# Altium integrated library NSC OtherParts.IntLib: 55 symbols (part 2 of 2)
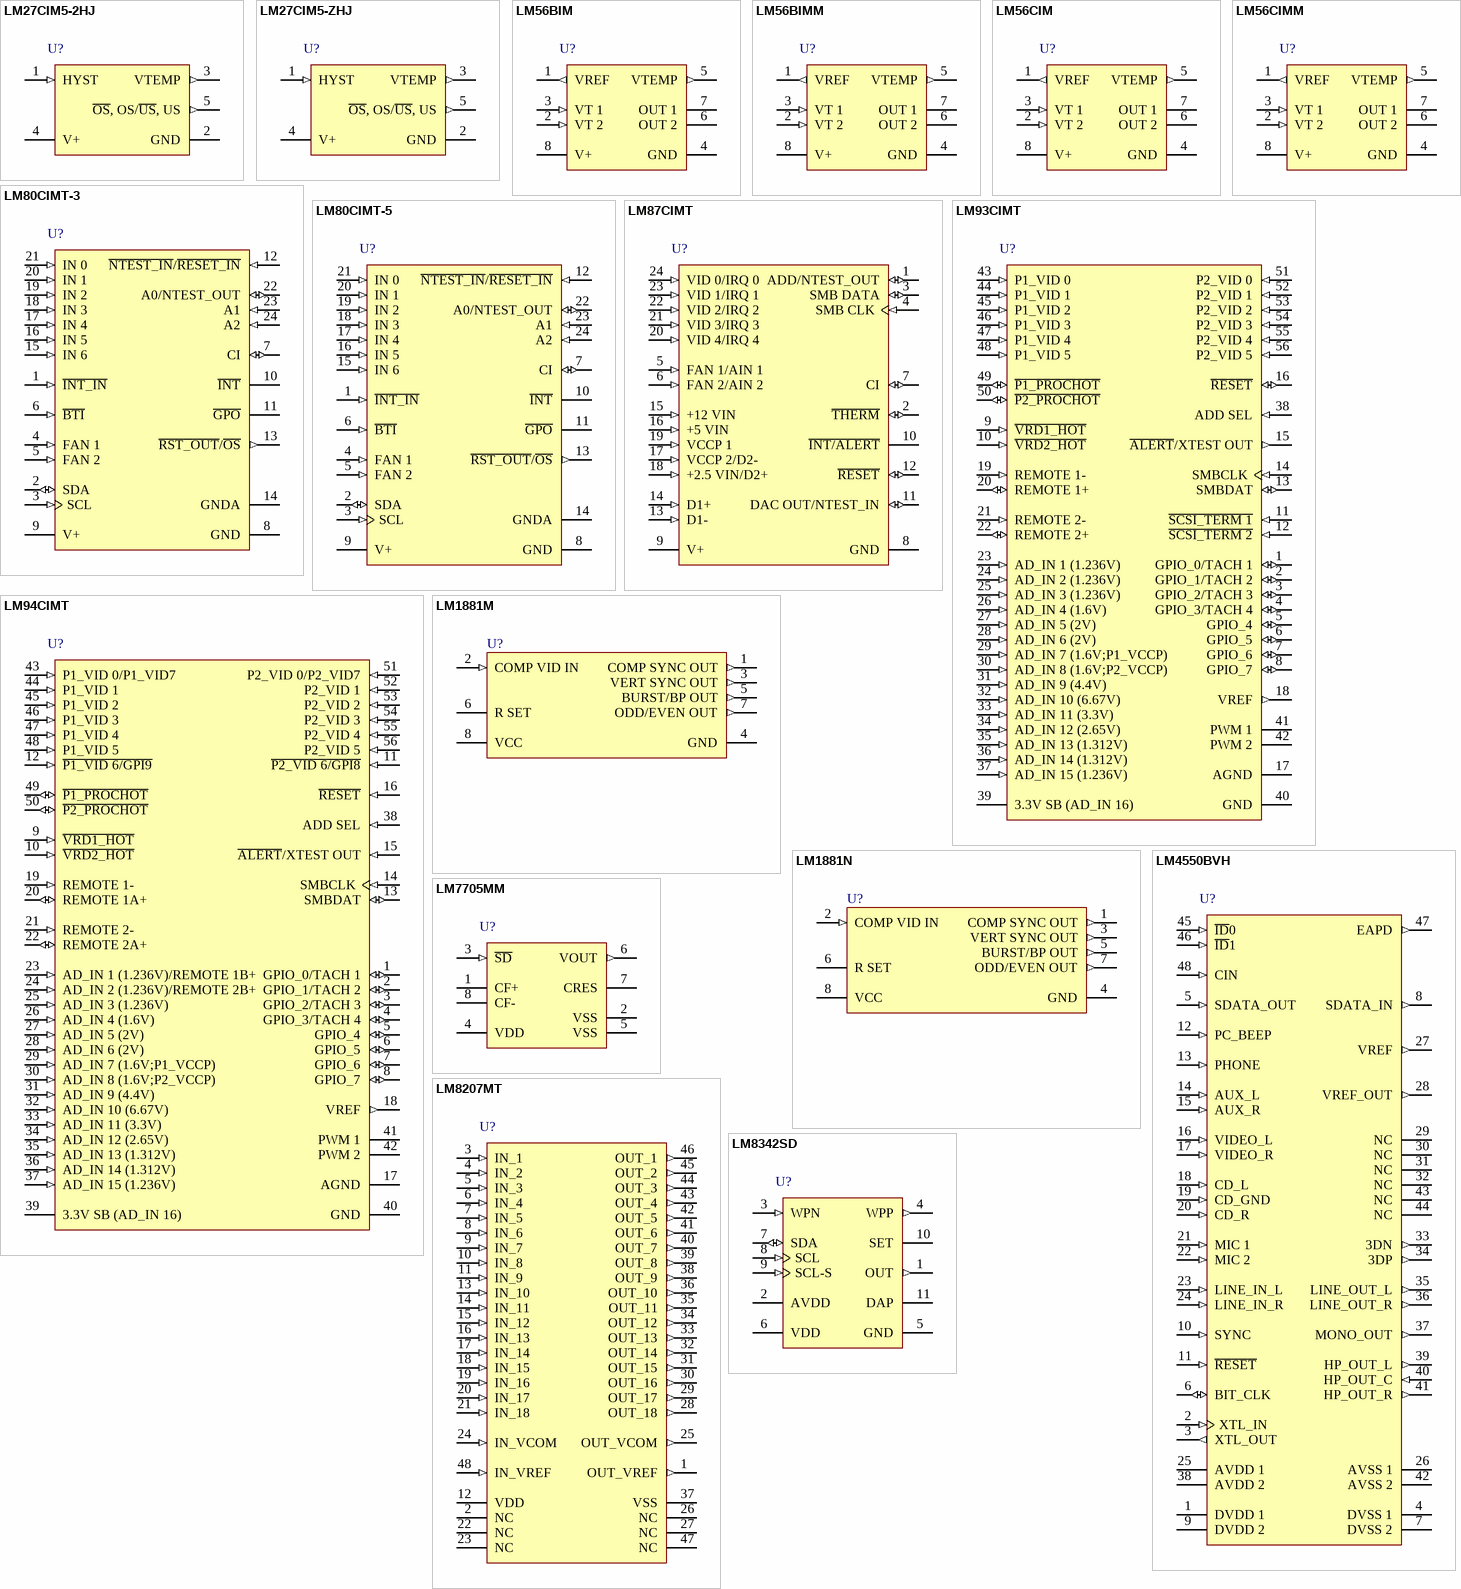
[diagram p4: symbols LM27CIM5-2HJ to LM8342SD]

## LM4550BVH
designator U?
AC '97 Rev 2.1 Codec with Sample Rate Conversion and National 3D Sound; PartNumber: LM4550BVH; Manufacturer: National Semiconductor; CompType: OtherParts; PackageTopMarking: TXPA*XTT; Published: 4-Dec-2008; DatasheetVersion: Sep-2006; PackageVersion: revE, May-2007; PackageReference: VBH48A; Publisher: Altium Limited; PackageDescription: LQFP, 7 x 7 x 1.4mm, 48 Lead, 0.5mm Pitch; RoHS: O; PinCount: 48; DigiKeyPartNumber: LM4550BVH-ND; ComponentLink1Description: LM4550B Datasheet; ComponentLink1URL: http://www.national.com/ds/LM/LM4550B.pdf; ComponentLink2Description: LM4550B Web Page; ComponentLink2URL: http://www.national.com/pf/LM/LM4550B.html; ComponentLink3Description: VBH48A Package Page; ComponentLink3URL: http://www.national.com/packaging/folders/vbh48a.html
footprint VBH48A_N (Thin QFP, 48-Leads, Body 7x7mm, Pitch 0.5mm, IPC Medium Density)
footprint VBH48A_L (Thin QFP, 48-Leads, Body 7x7mm, Pitch 0.5mm, IPC High Density)
footprint VBH48A_M (Thin QFP, 48-Leads, Body 7x7mm, Pitch 0.5mm, IPC Low Density)
pins: 1 DVDD 1 (power), 2 XTL_IN (in), 3 XTL_OUT (out), 4 DVSS 1 (power), 5 SDATA_OUT (in), 6 BIT_CLK (io), 7 DVSS 2 (power), 8 SDATA_IN (out), 9 DVDD 2 (power), 10 SYNC (in), 11 ~{RESET} (in), 12 PC_BEEP (in), 13 PHONE (in), 14 AUX_L (in), 15 AUX_R (in), 16 VIDEO_L (in), 17 VIDEO_R (in), 18 CD_L (in), 19 CD_GND (in), 20 CD_R (in), 21 MIC 1 (in), 22 MIC 2 (in), 23 LINE_IN_L (in), 24 LINE_IN_R (in), 25 AVDD 1 (power), 26 AVSS 1 (power), 27 VREF (out), 28 VREF_OUT (out), 29 NC, 30 NC, 31 NC, 32 NC, 33 3DN (out), 34 3DP (out), 35 LINE_OUT_L (out), 36 LINE_OUT_R (out), 37 MONO_OUT (out), 38 AVDD 2 (power), 39 HP_OUT_L (out), 40 HP_OUT_C (in), 41 HP_OUT_R (out), 42 AVSS 2 (power), 43 NC, 44 NC, 45 ~{ID}0 (in), 46 ~{ID}1 (in), 47 EAPD (out), 48 CIN (in)

## LM7705MM
designator U?
Low Noise Negative Bias Generator; PartNumber: LM7705MM; Manufacturer: National Semiconductor; CompType: OtherParts; PackageTopMarking: THHD*XTT; Published: 4-Dec-2008; DatasheetVersion: Nov-2008; PackageVersion: revF, Apr-2008; PackageReference: MUA08A; Publisher: Altium Limited; PackageDescription: MINI SOIC, .118 x .118 x .034in, 8 Lead, .0256in Pitch; RoHS: Y; PinCount: 8; Code_JEDEC: MO-187-AA; ComponentLink1Description: LM7705 Datasheet; ComponentLink1URL: http://www.national.com/ds/LM/LM7705.pdf; ComponentLink2Description: LM7705 Web Page; ComponentLink2URL: http://www.national.com/pf/LM/LM7705.html; ComponentLink3Description: MUA08A Package Page; ComponentLink3URL: http://www.national.com/packaging/folders/mua08a.html
footprint MUA08A_N (TSOP, 8-Leads, Body 3x3mm, Pitch 0.65mm, IPC Medium Density)
footprint MUA08A_L (TSOP, 8-Leads, Body 3x3mm, Pitch 0.65mm, IPC High Density)
footprint MUA08A_M (TSOP, 8-Leads, Body 3x3mm, Pitch 0.65mm, IPC Low Density)
pins: 1 CF+, 2 VSS (power), 3 ~{SD} (in), 4 VDD (power), 5 VSS (power), 6 VOUT (out), 7 CRES, 8 CF-

## LM8207MT
designator U?
TFT 18 Gamma Buffer + Vcom Driver + Voltage Reference; PartNumber: LM8207MT; Manufacturer: National Semiconductor; CompType: OtherParts; PackageTopMarking: TXPA*XTT; Published: 4-Dec-2008; DatasheetVersion: Sep-2005; PackageVersion: revE, Apr-2003; PackageReference: MTD48; Publisher: Altium Limited; PackageDescription: Molded TSSOP, Jedec, 12.5 x 6.1 x 0.9mm Body, 48 Lead, 0.50mm Pitch; RoHS: O; PinCount: 48; DigiKeyPartNumber: LM8207MT-ND; Code_JEDEC: MO-153-ED; ComponentLink1Description: LM8207 Datasheet; ComponentLink1URL: http://www.national.com/ds/LM/LM8207.pdf; ComponentLink2Description: LM8207 Web Page; ComponentLink2URL: http://www.national.com/pf/LM/LM8207.html; ComponentLink3Description: MTD48 Package Page; ComponentLink3URL: http://www.national.com/packaging/folders/mtd48.html
footprint MTD48_N (TSSOP, 48-Leads, Body 12.5x6.1mm, Pitch 0.5mm, IPC Medium Density)
footprint MTD48_L (TSSOP, 48-Leads, Body 12.5x6.1mm, Pitch 0.5mm, IPC High Density)
footprint MTD48_M (TSSOP, 48-Leads, Body 12.5x6.1mm, Pitch 0.5mm, IPC Low Density)
pins: 1 OUT_VREF (out), 2 NC, 3 IN_1 (in), 4 IN_2 (in), 5 IN_3 (in), 6 IN_4 (in), 7 IN_5 (in), 8 IN_6 (in), 9 IN_7 (in), 10 IN_8 (in), 11 IN_9 (in), 12 VDD (power), 13 IN_10 (in), 14 IN_11 (in), 15 IN_12 (in), 16 IN_13 (in), 17 IN_14 (in), 18 IN_15 (in), 19 IN_16 (in), 20 IN_17 (in), 21 IN_18 (in), 22 NC, 23 NC, 24 IN_VCOM (in), 25 OUT_VCOM (out), 26 NC, 27 NC, 28 OUT_18 (out), 29 OUT_17 (out), 30 OUT_16 (out), 31 OUT_15 (out), 32 OUT_14 (out), 33 OUT_13 (out), 34 OUT_12 (out), 35 OUT_11 (out), 36 OUT_10 (out), 37 VSS (power), 38 OUT_9 (out), 39 OUT_8 (out), 40 OUT_7 (out), 41 OUT_6 (out), 42 OUT_5 (out), 43 OUT_4 (out), 44 OUT_3 (out), 45 OUT_2 (out), 46 OUT_1 (out), 47 NC, 48 IN_VREF (in)

## LM8342SD
designator U?
Programmable TFT Vcom Calibrator with Non-Volatile Memory; PartNumber: LM8342SD; Manufacturer: National Semiconductor; CompType: OtherParts; PackageTopMarking: TXPA*XTT; Published: 4-Dec-2008; DatasheetVersion: Mar-2008; PackageVersion: revA, Oct-2003; PackageReference: SDA10A; Publisher: Altium Limited; PackageDescription: LLP, Plastic, Dual, 3 x 3 x 0.8mm Body, 10 Lead, 0.5mm Pitch, No Pullback; RoHS: O; PinCount: 11; DigiKeyPartNumber: LM8342SDCT-ND; ComponentLink1Description: LM8342 Datasheet; ComponentLink1URL: http://www.national.com/ds/LM/LM8342.pdf; ComponentLink2Description: LM8342 Web Page; ComponentLink2URL: http://www.national.com/pf/LM/LM8342.html; ComponentLink3Description: SDA10A Package Page; ComponentLink3URL: http://www.national.com/packaging/folders/sda10a.html
footprint SDA10A (SON, 10-Leads, Body 3x3 mm, Pitch 0.5mm, NSC Recommended)
pins: 1 OUT (out), 2 AVDD (power), 3 WPN (in), 4 WPP (out), 5 GND (power), 6 VDD (power), 7 SDA (io), 8 SCL (in), 9 SCL-S (in), 10 SET, 11 DAP (power)

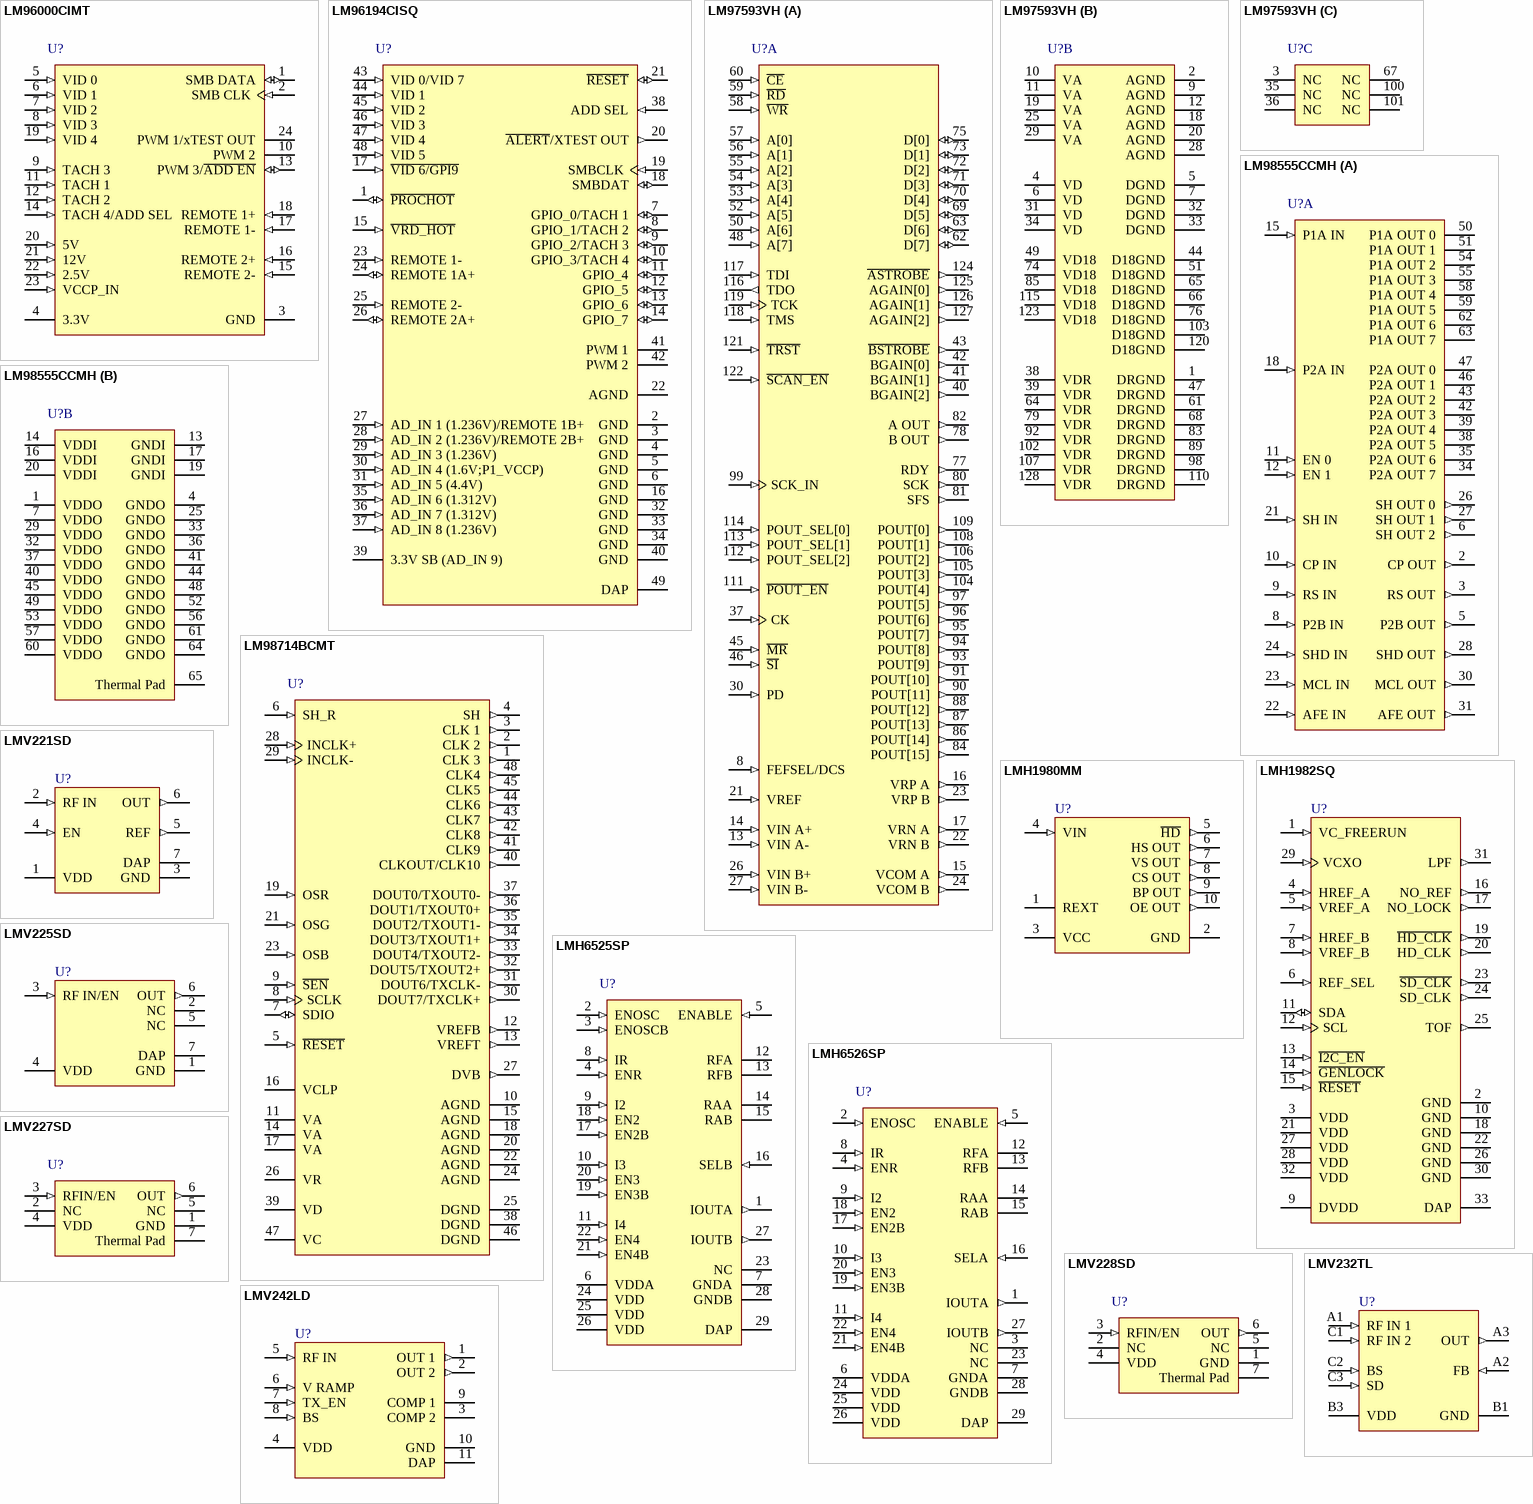
[diagram p2: symbols LM96000CIMT to LMV242LD]

## LM96000CIMT
designator U?
Hardware Monitor with Integrated Fan Control; PartNumber: LM96000CIMT; Manufacturer: National Semiconductor; CompType: OtherParts; PackageTopMarking: TXPA*XTT; Published: 4-Dec-2008; DatasheetVersion: Jul-2008; PackageVersion: revE, Mar-2003; PackageReference: MTC24; Publisher: Altium Limited; PackageDescription: Molded TSSOP, Jedec, 7.8 x 4.4 x 0.9mm Body, 24 Lead, 0.65mm Pitch; RoHS: O; PinCount: 24; DigiKeyPartNumber: LM96000CIMT-ND; Code_JEDEC: MO-153-AD; ComponentLink1Description: LM96000 Datasheet; ComponentLink1URL: http://www.national.com/ds/LM/LM96000.pdf; ComponentLink2Description: LM96000 Web Page; ComponentLink2URL: http://www.national.com/pf/LM/LM96000.html; ComponentLink3Description: MTC24 Package Page; ComponentLink3URL: http://www.national.com/packaging/folders/mtc24.html
footprint MTC24_N (TSOP, 24-Leads, Body 7.8x4.4mm, Pitch 0.65mm, IPC Medium Density)
footprint MTC24_L (TSOP, 24-Leads, Body 7.8x4.4mm, Pitch 0.65mm, IPC High Density)
footprint MTC24_M (TSOP, 24-Leads, Body 7.8x4.4mm, Pitch 0.65mm, IPC Low Density)
pins: 1 SMB DATA (io), 2 SMB CLK (in), 3 GND (power), 4 3.3V (power), 5 VID 0 (in), 6 VID 1 (in), 7 VID 2 (in), 8 VID 3 (in), 9 TACH 3 (in), 10 PWM 2 (oe), 11 TACH 1 (in), 12 TACH 2 (in), 13 PWM 3/~{ADD EN} (io), 14 TACH 4/ADD SEL (in), 15 REMOTE 2- (in), 16 REMOTE 2+ (in), 17 REMOTE 1- (in), 18 REMOTE 1+ (in), 19 VID 4 (in), 20 5V (in), 21 12V (in), 22 2.5V (in), 23 VCCP_IN (in), 24 PWM 1/xTEST OUT (oe)

## LM96194CISQ
designator U?
TruTherm Hardware Monitor with PI Fan Control for Workstation Management; PartNumber: LM96194CISQ; Manufacturer: National Semiconductor; CompType: OtherParts; PackageTopMarking: THHD*XTT; Published: 4-Dec-2008; DatasheetVersion: Mar-2004; PackageVersion: revA, May-2003; PackageReference: SQA48A; Publisher: Altium Limited; PackageDescription: LLP, Plastic, Quad, 7 x 7 x 0.8mm Body, 48 Lead, 0.5mm Pitch, No Pullback; RoHS: Y; PinCount: 48; DigiKeyPartNumber: LM96194CISQCT-ND; Code_JEDEC: MO-220-WKKD-2; ComponentLink1Description: LM96194 Datasheet; ComponentLink1URL: http://www.national.com/ds/LM/LM96194.pdf; ComponentLink2Description: LM96194 Web Page; ComponentLink2URL: http://www.national.com/pf/LM/LM96194.html; ComponentLink3Description: SQA48A Package Page; ComponentLink3URL: http://www.national.com/packaging/folders/sqa48a.html
footprint SQA48A (QFN, 48-Leads, Body 7x7mm, Pitch 0.5mm, NSC Recommended)
pins: 1 ~{PROCHOT} (io), 2 GND (power), 3 GND (power), 4 GND (power), 5 GND (power), 6 GND (power), 7 GPIO_0/TACH 1 (io), 8 GPIO_1/TACH 2 (io), 9 GPIO_2/TACH 3 (io), 10 GPIO_3/TACH 4 (io), 11 GPIO_4 (io), 12 GPIO_5 (io), 13 GPIO_6 (io), 14 GPIO_7 (io), 15 ~{VRD_HOT} (in), 16 GND (power), 17 ~{VID 6/GPI9} (in), 18 SMBDAT (io), 19 SMBCLK (in), 20 ~{ALERT}/XTEST OUT (out), 21 ~{RESET} (io), 22 AGND (power), 23 REMOTE 1- (in), 24 REMOTE 1A+ (io), 25 REMOTE 2- (in), 26 REMOTE 2A+ (io), 27 AD_IN 1 (1.236V)/REMOTE 1B+ (in), 28 AD_IN 2 (1.236V)/REMOTE 2B+ (in), 29 AD_IN 3 (1.236V) (in), 30 AD_IN 4 (1.6V;P1_VCCP) (in), 31 AD_IN 5 (4.4V) (in), 32 GND (power), 33 GND (power), 34 GND (power), 35 AD_IN 6 (1.312V) (in), 36 AD_IN 7 (1.312V) (in), 37 AD_IN 8 (1.236V) (in), 38 ADD SEL (in), 39 3.3V SB (AD_IN 9) (power), 40 GND (power), 41 PWM 1 (oe), 42 PWM 2 (oe), 43 VID 0/VID 7 (in), 44 VID 1 (in), 45 VID 2 (in), 46 VID 3 (in), 47 VID 4 (in), 48 VID 5 (in), 49 DAP (power)

## LM97593VH
designator U?
Dual ADC / Digital Tuner / AGC; PartNumber: LM97593VH; Manufacturer: National Semiconductor; CompType: OtherParts; PackageTopMarking: THHD*XTT; Published: 4-Dec-2008; DatasheetVersion: Mar-2008; PackageVersion: revC, Jun-1998; PackageReference: VLA128A; Publisher: Altium Limited; PackageDescription: PQFP, (S), 14 x 20 x 2.7mm, 128 Lead; RoHS: Y; PinCount: 128; DigiKeyPartNumber: LM97593VH-ND; ComponentLink1Description: LM97593 Datasheet; ComponentLink1URL: http://www.national.com/ds/LM/LM97593.pdf; ComponentLink2Description: LM97593 Web Page; ComponentLink2URL: http://www.national.com/pf/LM/LM97593.html; ComponentLink3Description: VLA128A Package Page; ComponentLink3URL: http://www.national.com/packaging/folders/vla128a.html
footprint VLA128A_N (Shrink QFP, 128-Leads, Body 20x14 mm, Pitch 0.5mm, IPC Medium Density)
footprint VLA128A_L (Shrink QFP, 128-Leads, Body 20x14 mm, Pitch 0.5mm, IPC High Density)
footprint VLA128A_M (Shrink QFP, 128-Leads, Body 20x14 mm, Pitch 0.5mm, IPC Low Density)
part A pins: 8 FEFSEL/DCS (in), 13 VIN A- (in), 14 VIN A+ (in), 15 VCOM A (out), 16 VRP A (out), 17 VRN A (out), 21 VREF (in), 22 VRN B (out), 23 VRP B (out), 24 VCOM B (out), 26 VIN B+ (in), 27 VIN B- (in), 30 PD (in), 37 CK (in), 40 BGAIN[2] (out), 41 BGAIN[1] (out), 42 BGAIN[0] (out), 43 ~{BSTROBE} (out), 45 ~{MR} (in), 46 ~{SI} (in), 48 A[7] (in), 50 A[6] (in), 52 A[5] (in), 53 A[4] (in), 54 A[3] (in), 55 A[2] (in), 56 A[1] (in), 57 A[0] (in), 58 ~{WR} (in), 59 ~{RD} (in), 60 ~{CE} (in), 62 D[7] (io), 63 D[6] (io), 69 D[5] (io), 70 D[4] (io), 71 D[3] (io), 72 D[2] (io), 73 D[1] (io), 75 D[0] (io), 77 RDY (out), 78 B OUT (out), 80 SCK (out), 81 SFS (out), 82 A OUT (out), 84 POUT[15] (out), 86 POUT[14] (out), 87 POUT[13] (out), 88 POUT[12] (out), 90 POUT[11] (out), 91 POUT[10] (out), 93 POUT[9] (out), 94 POUT[8] (out), 95 POUT[7] (out), 96 POUT[6] (out), 97 POUT[5] (out), 99 SCK_IN (in), 104 POUT[4] (out), 105 POUT[3] (out), 106 POUT[2] (out), 108 POUT[1] (out), 109 POUT[0] (out), 111 ~{POUT_EN} (in), 112 POUT_SEL[2] (in), 113 POUT_SEL[1] (in), 114 POUT_SEL[0] (in), 116 TDO (out), 117 TDI (in), 118 TMS (in), 119 TCK (in), 121 ~{TRST} (in), 122 ~{SCAN_EN} (in), 124 ~{ASTROBE} (out), 125 AGAIN[0] (out), 126 AGAIN[1] (out), 127 AGAIN[2] (out)
part B pins: 1 DRGND (power), 2 AGND (power), 4 VD (power), 5 DGND (power), 6 VD (power), 7 DGND (power), 9 AGND (power), 10 VA (power), 11 VA (power), 12 AGND (power), 18 AGND (power), 19 VA (power), 20 AGND (power), 25 VA (power), 28 AGND (power), 29 VA (power), 31 VD (power), 32 DGND (power), 33 DGND (power), 34 VD (power), 38 VDR (power), 39 VDR (power), 44 D18GND (power), 47 DRGND (power), 49 VD18 (power), 51 D18GND (power), 61 DRGND (power), 64 VDR (power), 65 D18GND (power), 66 D18GND (power), 68 DRGND (power), 74 VD18 (power), 76 D18GND (power), 79 VDR (power), 83 DRGND (power), 85 VD18 (power), 89 DRGND (power), 92 VDR (power), 98 DRGND (power), 102 VDR (power), 103 D18GND (power), 107 VDR (power), 110 DRGND (power), 115 VD18 (power), 120 D18GND (power), 123 VD18 (power), 128 VDR (power)
part C pins: 3 NC, 35 NC, 36 NC, 67 NC, 100 NC, 101 NC

## LM98555CCMH
designator U?
CCD Driver; PartNumber: LM98555CCMH; Manufacturer: National Semiconductor; CompType: OtherParts; PackageTopMarking: THHD*XTT; Published: 4-Dec-2008; DatasheetVersion: Aug-2007; PackageVersion: revA, Feb-2004; PackageReference: MXD64A; Publisher: Altium Limited; PackageDescription: Molded TSSOP, JEDEC, 17 x 6.1 x 0.9mm Body, 64 Lead, 0.5mm Pitch, Exposed Pad; RoHS: Y; PinCount: 65; DigiKeyPartNumber: LM98555CCMH-ND; Code_JEDEC: MO-153-EFT; ComponentLink1Description: LM98555 Datasheet; ComponentLink1URL: http://www.national.com/ds/LM/LM98555.pdf; ComponentLink2Description: LM98555 Web Page; ComponentLink2URL: http://www.national.com/pf/LM/LM98555.html; ComponentLink3Description: MXD64A Package Page; ComponentLink3URL: http://www.national.com/packaging/folders/mxd64a.html
footprint MXD64A_N (TSSOP, 64-Leads, Body 17x6.1mm, Pitch 0.5mm, Exposed Pad, IPC Medium Density)
footprint MXD64A_L (TSSOP, 64-Leads, Body 17x6.1mm, Pitch 0.5mm, Exposed Pad, IPC High Density)
footprint MXD64A_M (TSSOP, 64-Leads, Body 17x6.1mm, Pitch 0.5mm, Exposed Pad, IPC Low Density)
part A pins: 2 CP OUT (out), 3 RS OUT (out), 5 P2B OUT (out), 6 SH OUT 2 (out), 8 P2B IN (in), 9 RS IN (in), 10 CP IN (in), 11 EN 0 (in), 12 EN 1 (in), 15 P1A IN (in), 18 P2A IN (in), 21 SH IN (in), 22 AFE IN (in), 23 MCL IN (in), 24 SHD IN (in), 26 SH OUT 0 (out), 27 SH OUT 1 (out), 28 SHD OUT (out), 30 MCL OUT (out), 31 AFE OUT (out), 34 P2A OUT 7 (hiz), 35 P2A OUT 6 (hiz), 38 P2A OUT 5 (hiz), 39 P2A OUT 4 (hiz), 42 P2A OUT 3 (hiz), 43 P2A OUT 2 (hiz), 46 P2A OUT 1 (hiz), 47 P2A OUT 0 (hiz), 50 P1A OUT 0 (hiz), 51 P1A OUT 1 (hiz), 54 P1A OUT 2 (hiz), 55 P1A OUT 3 (hiz), 58 P1A OUT 4 (hiz), 59 P1A OUT 5 (hiz), 62 P1A OUT 6 (hiz), 63 P1A OUT 7 (hiz)
part B pins: 1 VDDO (power), 4 GNDO (power), 7 VDDO (power), 13 GNDI (power), 14 VDDI (power), 16 VDDI (power), 17 GNDI (power), 19 GNDI (power), 20 VDDI (power), 25 GNDO (power), 29 VDDO (power), 32 VDDO (power), 33 GNDO (power), 36 GNDO (power), 37 VDDO (power), 40 VDDO (power), 41 GNDO (power), 44 GNDO (power), 45 VDDO (power), 48 GNDO (power), 49 VDDO (power), 52 GNDO (power), 53 VDDO (power), 56 GNDO (power), 57 VDDO (power), 60 VDDO (power), 61 GNDO (power), 64 GNDO (power), 65 Thermal Pad (power)

## LM98714BCMT
designator U?
Three Channel, 16-Bit, 45 MSPS Digital Copier Analog Front End with Integrated CCD/CIS Sensor Timing Generator and LVDS Output; PartNumber: LM98714BCMT; Manufacturer: National Semiconductor; CompType: OtherParts; PackageTopMarking: THHD*XTT; Published: 4-Dec-2008; DatasheetVersion: Oct-2006; PackageVersion: revE, Apr-2003; PackageReference: MTD48; Publisher: Altium Limited; PackageDescription: Molded TSSOP, Jedec, 12.5 x 6.1 x 0.9mm Body, 48 Lead, 0.50mm Pitch; RoHS: Y; PinCount: 48; DigiKeyPartNumber: LM98714BCMT-ND; Code_JEDEC: MO-153-ED; ComponentLink1Description: LM98714 Datasheet; ComponentLink1URL: http://www.national.com/ds/LM/LM98714.pdf; ComponentLink2Description: LM98714 Web Page; ComponentLink2URL: http://www.national.com/pf/LM/LM98714.html; ComponentLink3Description: MTD48 Package Page; ComponentLink3URL: http://www.national.com/packaging/folders/mtd48.html
footprint MTD48_N (TSSOP, 48-Leads, Body 12.5x6.1mm, Pitch 0.5mm, IPC Medium Density)
footprint MTD48_L (TSSOP, 48-Leads, Body 12.5x6.1mm, Pitch 0.5mm, IPC High Density)
footprint MTD48_M (TSSOP, 48-Leads, Body 12.5x6.1mm, Pitch 0.5mm, IPC Low Density)
pins: 1 CLK 3 (out), 2 CLK 2 (out), 3 CLK 1 (out), 4 SH (out), 5 ~{RESET} (in), 6 SH_R (in), 7 SDIO (io), 8 SCLK (in), 9 ~{SEN} (in), 10 AGND (power), 11 VA (power), 12 VREFB (out), 13 VREFT (out), 14 VA (power), 15 AGND (power), 16 VCLP (power), 17 VA (power), 18 AGND (power), 19 OSR (in), 20 AGND (power), 21 OSG (in), 22 AGND (power), 23 OSB (in), 24 AGND (power), 25 DGND (power), 26 VR (power), 27 DVB (out), 28 INCLK+ (in), 29 INCLK- (in), 30 DOUT7/TXCLK+ (out), 31 DOUT6/TXCLK- (out), 32 DOUT5/TXOUT2+ (out), 33 DOUT4/TXOUT2- (out), 34 DOUT3/TXOUT1+ (out), 35 DOUT2/TXOUT1- (out), 36 DOUT1/TXOUT0+ (out), 37 DOUT0/TXOUT0- (out), 38 DGND (power), 39 VD (power), 40 CLKOUT/CLK10 (out), 41 CLK9 (out), 42 CLK8 (out), 43 CLK7 (out), 44 CLK6 (out), 45 CLK5 (out), 46 DGND (power), 47 VC (power), 48 CLK4 (out)

## LMH1980MM
designator U?
Auto-Detecting SD/HD/PC Video Sync Separator; PartNumber: LMH1980MM; Manufacturer: National Semiconductor; CompType: OtherParts; PackageTopMarking: ZXTT*AL4A; Published: 4-Dec-2008; DatasheetVersion: Jul-2007; PackageVersion: revB, Jul-2003; PackageReference: MUB10A; Publisher: Altium Limited; PackageDescription: Mini-SO, Molded, .118 x .118 x .034in Body, 10 Lead, .0197in Pitch; RoHS: Y; Pin Count: 10; DigiKeyPartNumber: LMH1980MMCT-ND; Code_JEDEC: MO-187-BA; ComponentLink1Description: LMH1980 Datasheet; ComponentLink1URL: http://www.national.com/ds/LM/LMH1980.pdf; ComponentLink2Description: LMH1980 Web Page; ComponentLink2URL: http://www.national.com/pf/LM/LMH1980.html; ComponentLink3Description: MUB10A Package Page; ComponentLink3URL: http://www.national.com/packaging/folders/mub10a.html
footprint MUB10A_N (TSSOP, 10-Leads, Body 3x3mm, Pitch 0.5mm, IPC Medium Density)
footprint MUB10A_L (TSSOP, 10-Leads, Body 3x3mm, Pitch 0.5mm, IPC High Density)
footprint MUB10A_M (TSSOP, 10-Leads, Body 3x3mm, Pitch 0.5mm, IPC Low Density)
pins: 1 REXT, 2 GND (power), 3 VCC (power), 4 VIN (in), 5 ~{HD} (out), 6 HS OUT (out), 7 VS OUT (out), 8 CS OUT (out), 9 BP OUT (out), 10 OE OUT (out)

## LMH1982SQ
designator U?
Multi-Rate Video Clock Generator with Genlock; PartNumber: LMH1982SQ; Manufacturer: National Semiconductor; CompType: OtherParts; PackageTopMarking: NS*UZXYTT*L1982SQ; Published: 4-Dec-2008; DatasheetVersion: Jul-2008; PackageVersion: revA, Jul-2004; PackageReference: SQA32A; Publisher: Altium Limited; PackageDescription: LLP, Quad, 5 x 5 x 0.8mm, 32 Lead, 0.5mm Pitch, No Pullback 3.1 x 3.1 Exposed Pad; RoHS: Y; Pin Count: 33; DigiKeyPartNumber: LMH1982SQ-ND; ComponentLink1Description: LMH1982 Datasheet; ComponentLink1URL: http://www.national.com/ds/LM/LMH1982.pdf; ComponentLink2Description: LMH1982 Web Page; ComponentLink2URL: http://www.national.com/pf/LM/LMH1982.html; ComponentLink3Description: SQA32A Package Page; ComponentLink3URL: http://www.national.com/packaging/folders/sqa32a.html
footprint SQA32A (QFN, 32-Leads, Body 5x5mm, Pitch 0.5mm, NSC Recommended)
pins: 1 VC_FREERUN (in), 2 GND (power), 3 VDD (power), 4 HREF_A (in), 5 VREF_A (in), 6 REF_SEL (in), 7 HREF_B (in), 8 VREF_B (in), 9 DVDD (power), 10 GND (power), 11 SDA (io), 12 SCL (in), 13 ~{I2C_EN} (in), 14 ~{GENLOCK} (in), 15 ~{RESET} (in), 16 NO_REF (out), 17 NO_LOCK (out), 18 GND (power), 19 ~{HD_CLK} (out), 20 HD_CLK (out), 21 VDD (power), 22 GND (power), 23 ~{SD_CLK} (out), 24 SD_CLK (out), 25 TOF (out), 26 GND (power), 27 VDD (power), 28 VDD (power), 29 VCXO (in), 30 GND (power), 31 LPF (out), 32 VDD (power), 33 DAP (power)

## LMH6525SP
designator U?
Four-Channel Laser Diode Driver with Dual Output; PartNumber: LMH6525SP; Manufacturer: National Semiconductor; CompType: OtherParts; PackageTopMarking: THHD*XTT; Published: 4-Dec-2008; DatasheetVersion: Jun-2005; PackageVersion: revA, Aug-2003; PackageReference: SPA28A; Publisher: Altium Limited; PackageDescription: LLP, Plastic, Quad, 5 x 5 x 0.6mm Body, 28 Lead, 0.5mm Pitch, No Pullback; RoHS: Y; PinCount: 28; DigiKeyPartNumber: LMH6525SPCT-ND; Code_JEDEC: MO-220-WHHD-3; ComponentLink1Description: LMH6525 Datasheet; ComponentLink1URL: http://www.national.com/ds/LM/LMH6525.pdf; ComponentLink2Description: LMH6525 Web Page; ComponentLink2URL: http://www.national.com/pf/LM/LMH6525.html; ComponentLink3Description: SPA28A Package Page; ComponentLink3URL: http://www.national.com/packaging/folders/spa28a.html
footprint SPA28A (QFN, 28-Leads, Body 5x5mm, Pitch 0.5mm, NSC Recommended)
pins: 1 IOUTA (out), 2 ENOSC (in), 3 ENOSCB (in), 4 ENR (in), 5 ENABLE (in), 6 VDDA (power), 7 GNDA (power), 8 IR (in), 9 I2 (in), 10 I3 (in), 11 I4 (in), 12 RFA, 13 RFB, 14 RAA, 15 RAB, 16 SELB (in), 17 EN2B (in), 18 EN2 (in), 19 EN3B (in), 20 EN3 (in), 21 EN4B (in), 22 EN4 (in), 23 NC, 24 VDD (power), 25 VDD (power), 26 VDD (power), 27 IOUTB (out), 28 GNDB (power), 29 DAP (power)

## LMH6526SP
designator U?
Four-Channel Laser Diode Driver with Dual Output; PartNumber: LMH6526SP; Manufacturer: National Semiconductor; CompType: OtherParts; PackageTopMarking: THHD*XTT; Published: 4-Dec-2008; DatasheetVersion: Jun-2005; PackageVersion: revA, Aug-2003; PackageReference: SPA28A; Publisher: Altium Limited; PackageDescription: LLP, Plastic, Quad, 5 x 5 x 0.6mm Body, 28 Lead, 0.5mm Pitch, No Pullback; RoHS: Y; PinCount: 28; DigiKeyPartNumber: LMH6526SPCT-ND; Code_JEDEC: MO-220-WHHD-3; ComponentLink1Description: LMH6526 Datasheet; ComponentLink1URL: http://www.national.com/ds/LM/LMH6526.pdf; ComponentLink2Description: LMH6526 Web Page; ComponentLink2URL: http://www.national.com/pf/LM/LMH6526.html; ComponentLink3Description: SPA28A Package Page; ComponentLink3URL: http://www.national.com/packaging/folders/spa28a.html
footprint SPA28A (QFN, 28-Leads, Body 5x5mm, Pitch 0.5mm, NSC Recommended)
pins: 1 IOUTA (out), 2 ENOSC (in), 3 NC, 4 ENR (in), 5 ENABLE (in), 6 VDDA (power), 7 GNDA (power), 8 IR (in), 9 I2 (in), 10 I3 (in), 11 I4 (in), 12 RFA, 13 RFB, 14 RAA, 15 RAB, 16 SELA (in), 17 EN2B (in), 18 EN2 (in), 19 EN3B (in), 20 EN3 (in), 21 EN4B (in), 22 EN4 (in), 23 NC, 24 VDD (power), 25 VDD (power), 26 VDD (power), 27 IOUTB (out), 28 GNDB (power), 29 DAP (power)

## LMV221SD
designator U?
50 MHz to 3.5 GHz 40 dB Logarithmic Power Detector for CDMA and WCDMA; PartNumber: LMV221SD; Manufacturer: National Semiconductor; CompType: OtherParts; PackageTopMarking: XTT*A96; Published: 4-Dec-2008; DatasheetVersion: Mar-2008; PackageVersion: revA, Nov-2003; PackageReference: SDB06A; Publisher: Altium Limited; PackageDescription: LLP, Plastic, Dual, 2.2 x 2.5 x 0.8mm Body, 6 Lead, 0.65mm Pitch, No Pullback; RoHS: Y; PinCount: 7; DigiKeyPartNumber: LMV221SDCT-ND; ComponentLink1Description: LMV221 Datasheet; ComponentLink1URL: http://www.national.com/ds.cgi/LM/LMV221.pdf; ComponentLink2Description: LMV221 Web Page; ComponentLink2URL: http://www.national.com/pf/LM/LMV221.html; ComponentLink3Description: SDB06A package page; ComponentLink3URL: http://www.national.com/packaging/folders/sdb06a.html
footprint SDB06A (SON, 6-Leads, Body 2.2x2.5mm, Pitch 0.65mm, NSC Recommended (SC-70 Land))
pins: 1 VDD (power), 2 RF IN (in), 3 GND (power), 4 EN (in), 5 REF (out), 6 OUT (out), 7 DAP (power)

## LMV225SD
designator U?
RF Power Detector for CDMA and WCDMA; PartNumber: LMV225SD; Manufacturer: National Semiconductor; CompType: OtherParts; PackageTopMarking: XTT*A90; Published: 4-Dec-2008; DatasheetVersion: Oct-2006; PackageVersion: revA, Nov-2003; PackageReference: SDB06A; Publisher: Altium Limited; PackageDescription: LLP, Plastic, Dual, 2.2 x 2.5 x 0.8mm Body, 6 Lead, 0.65mm Pitch, No Pullback; RoHS: O; PinCount: 6; DigiKeyPartNumber: LMV221SDCT-ND; ComponentLink1Description: LMV225 Datasheet; ComponentLink1URL: http://www.national.com/ds.cgi/LM/LMV225.pdf; ComponentLink2Description: LMV225 Web Page; ComponentLink2URL: http://www.national.com/pf/LM/LMV225.html; ComponentLink3Description: SDB06A package page; ComponentLink3URL: http://www.national.com/packaging/folders/sdb06a.html
footprint SDB06A (SON, 6-Leads, Body 2.2x2.5mm, Pitch 0.65mm, NSC Recommended (SC-70 Land))
pins: 1 GND (power), 2 NC, 3 RF IN/EN (in), 4 VDD (power), 5 NC, 6 OUT (out), 7 DAP (power)

## LMV227SD
designator U?
Production RF Tested, RF Power Detector for CDMA and WCDMA; PartNumber: LMV227SD; Manufacturer: National Semiconductor; CompType: OtherParts; PackageTopMarking: THHD*XTT; Published: 4-Dec-2008; DatasheetVersion: Jul-2006; PackageVersion: revA, Nov-2003; PackageReference: SDB06A; Publisher: Altium Limited; PackageDescription: LLP, Plastic, Dual, 2.2 x 2.5 x 0.8mm Body, 6 Lead, 0.65mm Pitch, No Pullback; RoHS: Y; PinCount: 6; DigiKeyPartNumber: LMV227SDCT-ND; ComponentLink1Description: LMV227 Datasheet; ComponentLink1URL: http://www.national.com/ds/LM/LMV227.pdf; ComponentLink2Description: LMV227 Web Page; ComponentLink2URL: http://www.national.com/pf/LM/LMV227.html; ComponentLink3Description: SDB06A Package Page; ComponentLink3URL: http://www.national.com/packaging/folders/sdb06a.html
footprint SDB06A (SON, 6-Leads, Body 2.2x2.5mm, Pitch 0.65mm, NSC Recommended (SC-70 Land))
pins: 1 GND (power), 2 NC, 3 RFIN/EN (in), 4 VDD (power), 5 NC, 6 OUT (out), 7 Thermal Pad (power)

## LMV228SD
designator U?
RF Power Detector for CDMA and WCDMA in micro SMD; PartNumber: LMV228SD; Manufacturer: National Semiconductor; CompType: OtherParts; PackageTopMarking: THHD*XTT; Published: 4-Dec-2008; DatasheetVersion: Oct-2006; PackageVersion: revA, Nov-2003; PackageReference: SDB06A; Publisher: Altium Limited; PackageDescription: LLP, Plastic, Dual, 2.2 x 2.5 x 0.8mm Body, 6 Lead, 0.65mm Pitch, No Pullback; RoHS: Y; PinCount: 6; DigiKeyPartNumber: LMV228SDCT-ND; ComponentLink1Description: LMV228 Datasheet; ComponentLink1URL: http://www.national.com/ds/LM/LMV228.pdf; ComponentLink2Description: LMV228 Web Page; ComponentLink2URL: http://www.national.com/pf/LM/LMV228.html; ComponentLink3Description: SDB06A Package Page; ComponentLink3URL: http://www.national.com/packaging/folders/sdb06a.html
footprint SDB06A (SON, 6-Leads, Body 2.2x2.5mm, Pitch 0.65mm, NSC Recommended (SC-70 Land))
pins: 1 GND (power), 2 NC, 3 RFIN/EN (in), 4 VDD (power), 5 NC, 6 OUT (out), 7 Thermal Pad (power)

## LMV232TL
designator U?
Dual-Channel Integrated Mean Square Power Detector for CDMA & WCDMA; PartNumber: LMV232TL; Manufacturer: National Semiconductor; CompType: OtherParts; PackageTopMarking: XVA*I 02; Published: 4-Dec-2008; DatasheetVersion: Apr-2005; PackageVersion: revC, Jan-2004; PackageReference: TLA08AAA; Publisher: Altium Limited; PackageDescription: Thin Micro SMD, 8 Bump (Large), 0.5mm Pitch; RoHS: Y; PinCount: 8; DigiKeyPartNumber: LMV232TLCT-ND; ComponentLink1Description: LMV232 Datasheet; ComponentLink1URL: http://www.national.com/ds.cgi/LM/LMV232.pdf; ComponentLink2Description: LMV232 Web Page; ComponentLink2URL: http://www.national.com/pf/LM/LMV232.html; ComponentLink3Description: TLA08AAA package page; ComponentLink3URL: http://www.national.com/packaging/folders/tla08aaa.html
footprint TLA08AAA (Micro SMD, 8-Leads, Body 1.52x1.52mm, Pitch 0.5mm, NSC Recommended)
pins: A1 RF IN 1 (in), A2 FB (in), A3 OUT (out), B1 GND (power), B3 VDD (power), C1 RF IN 2 (in), C2 BS (in), C3 SD (in)

## LMV242LD
designator U?
Dual Output, Quad-Band GSM/GPRS Power Amplifier Controller; PartNumber: LMV242LD; Manufacturer: National Semiconductor; CompType: OtherParts; PackageTopMarking: ZXYTT*242LD; Published: 4-Dec-2008; DatasheetVersion: Jul-2004; PackageVersion: revB, Jan-2003; PackageReference: LDA10A; Publisher: Altium Limited; PackageDescription: LLP, Plastic, Dual, 3 x 3 x 0.75mm Body, 10 Lead, 0.5mm Pitch; RoHS: O; PinCount: 10; DigiKeyPartNumber: LMV242LDCT-ND; ComponentLink1Description: LMV242 Datasheet; ComponentLink1URL: http://www.national.com/ds.cgi/LM/LMV242.pdf; ComponentLink2Description: LMV242 Web Page; ComponentLink2URL: http://www.national.com/pf/LM/LMV242.html; ComponentLink3Description: LDA10A package page; ComponentLink3URL: http://www.national.com/packaging/folders/lda10a.html
footprint LDA10A (PSON, 10-Leads, Body 3x3mm, Pitch 0.5mm, NSC Recommended)
pins: 1 OUT 1 (out), 2 OUT 2 (out), 3 COMP 2, 4 VDD (power), 5 RF IN (in), 6 V RAMP (in), 7 TX_EN (in), 8 BS (in), 9 COMP 1, 10 GND (power), 11 DAP (power)

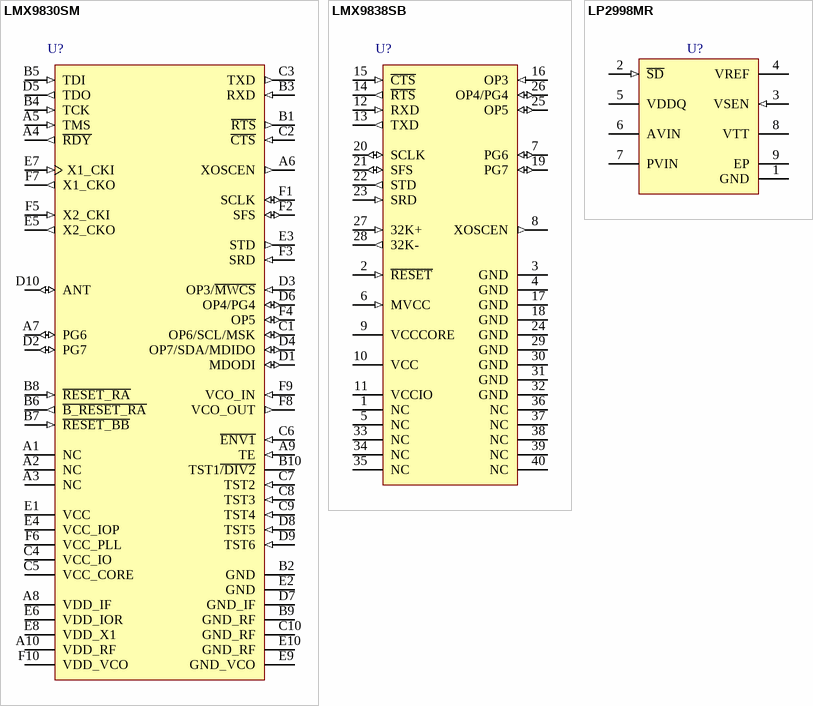
[diagram p3: symbols LMX9830SM to LP2998MR]

## LMX9830SM
designator U?
Bluetooth Serial Port Module; PartNumber: LMX9830SM; Manufacturer: National Semiconductor; CompType: OtherParts; PackageTopMarking: THHD*XTT; Published: 4-Dec-2008; DatasheetVersion: Sep-2008; PackageVersion: revA, Oct-2003; PackageReference: SLF60A; Publisher: Altium Limited; PackageDescription: FBGA, Plastic, Laminate, 9 x 6 x 1.2mm, 60 Ball, 0.8mm Pitch; RoHS: Y; PinCount: 60; DigiKeyPartNumber: LMX9830SM-ND; ComponentLink1Description: LMX9830 Datasheet; ComponentLink1URL: http://www.national.com/ds/LM/LMX9830.pdf; ComponentLink2Description: LMX9830 Web Page; ComponentLink2URL: http://www.national.com/pf/LM/LMX9830.html; ComponentLink3Description: SLF60A Package Page; ComponentLink3URL: http://www.national.com/packaging/folders/slf60a.html
footprint SLF60A (BGA, 60-Leads, Body 6x9mm, Pitch 0.8mm)
pins: A1 NC, A2 NC, A3 NC, A4 ~{RDY} (out), A5 TMS (in), A6 XOSCEN (out), A7 PG6 (io), A8 VDD_IF (power), A9 TE (in), A10 VDD_RF (power), B1 ~{RTS} (out), B2 GND (power), B3 RXD (in), B4 TCK (in), B5 TDI (in), B6 ~{B_RESET_RA} (out), B7 ~{RESET_BB} (in), B8 ~{RESET_RA} (in), B9 GND_RF (power), B10 TST1~{/DIV2}, C1 OP6/SCL/MSK (io), C2 ~{CTS} (in), C3 TXD (out), C4 VCC_IO (power), C5 VCC_CORE (power), C6 ~{ENV1} (in), C7 TST2 (in), C8 TST3 (in), C9 TST4 (in), C10 GND_RF (power), D1 MDODI (io), D2 PG7 (io), D3 OP3/~{MWCS} (in), D4 OP7/SDA/MDIDO (io), D5 TDO (out), D6 OP4/PG4 (io), D7 GND_IF (power), D8 TST5 (in), D9 TST6 (in), D10 ANT (io), E1 VCC (power), E2 GND (power), E3 STD (out), E4 VCC_IOP (power), E5 X2_CKO (out), E6 VDD_IOR (power), E7 X1_CKI (in), E8 VDD_X1 (power), E9 GND_VCO (power), E10 GND_RF (power), F1 SCLK (io), F2 SFS (io), F3 SRD (in), F4 OP5 (io), F5 X2_CKI (in), F6 VCC_PLL (power), F7 X1_CKO (out), F8 VCO_OUT (out), F9 VCO_IN (in), F10 VDD_VCO (power)

## LMX9838SB
designator U?
Bluetooth Serial Port Module; PartNumber: LMX9838SB; Manufacturer: National Semiconductor; CompType: OtherParts; PackageTopMarking: NSCE2VZXYYTT*LMX9838SB*FCC ID; Published: 4-Dec-2008; DatasheetVersion: Sep-2007; PackageVersion: Sep-2007; PackageReference: SB70A; Publisher: Altium Limited; PackageDescription: LGA, 10 x 17 x 1.85mm, 70 Pad, 1.0mm Pitch; RoHS: Y; PinCount: 40; DigiKeyPartNumber: LMX9838SB-ND; ComponentLink1Description: LMX9838 Datasheet; ComponentLink1URL: http://www.national.com/ds.cgi/LM/LMX9838.pdf; ComponentLink2Description: LMX9838 Web Page; ComponentLink2URL: http://www.national.com/pf/LM/LMX9838.html
footprint SB70A (Lead Grid Array, 70-Leads (30 Absent), Body 17x10mm, Pitch 1mm, NSC Recommended)
pins: 1 NC, 2 ~{RESET} (in), 3 GND (power), 4 GND (power), 5 NC, 6 MVCC (in), 7 PG6 (io), 8 XOSCEN (out), 9 VCCCORE (power), 10 VCC (power), 11 VCCIO (power), 12 RXD (in), 13 TXD (out), 14 ~{RTS} (out), 15 ~{CTS} (in), 16 OP3 (in), 17 GND (power), 18 GND (power), 19 PG7 (io), 20 SCLK (io), 21 SFS (io), 22 STD (out), 23 SRD (in), 24 GND (power), 25 OP5 (io), 26 OP4/PG4 (io), 27 32K+ (in), 28 32K- (out), 29 GND (power), 30 GND (power), 31 GND (power), 32 GND (power), 33 NC, 34 NC, 35 NC, 36 NC, 37 NC, 38 NC, 39 NC, 40 NC

## LP2998MR
designator U?
DDR-II and DDR-I Termination Regulator; PartNumber: LP2998MR; Manufacturer: National Semiconductor; CompType: OtherParts; PackageTopMarking: NSXYTT*LP2998*MR; Published: 4-Dec-2008; DatasheetVersion: Apr-2008; PackageVersion: revD, Dec-2007; PackageReference: MRA08A; Publisher: Altium Limited; PackageDescription: Molded, PSOP .193 x .154 x .058in, 8 Lead, .050in Pitch; RoHS: Y; PinCount: 8; DigiKeyPartNumber: LP2998MR-ND; Code_JEDEC: MS-012-AA; ComponentLink1Description: LP2998 Datasheet; ComponentLink1URL: http://www.national.com/ds/LP/LP2998.pdf; ComponentLink2Description: LP2998 Web Page; ComponentLink2URL: http://www.national.com/pf/LP/LP2998.html; ComponentLink3Description: MRA08A Package Page; ComponentLink3URL: http://www.national.com/packaging/folders/mra08a.html
footprint MRA08A_N (SOIC, 8-Leads, Body 4.9x3.9mm, Pitch 1.27mm, Exposed Pad, IPC Medium Density)
footprint MRA08A_L (SOIC, 8-Leads, Body 4.9x3.9mm, Pitch 1.27mm, Exposed Pad, IPC High Density)
footprint MRA08A_M (SOIC, 8-Leads, Body 4.9x3.9mm, Pitch 1.27mm, Exposed Pad, IPC Low Density)
pins: 1 GND (power), 2 ~{SD} (in), 3 VSEN (in), 4 VREF, 5 VDDQ (power), 6 AVIN (power), 7 PVIN (power), 8 VTT (power), 9 EP (power)